# EAGLE library part 8P8C (library con-rj45)
generic 8P8C connector with two LED's
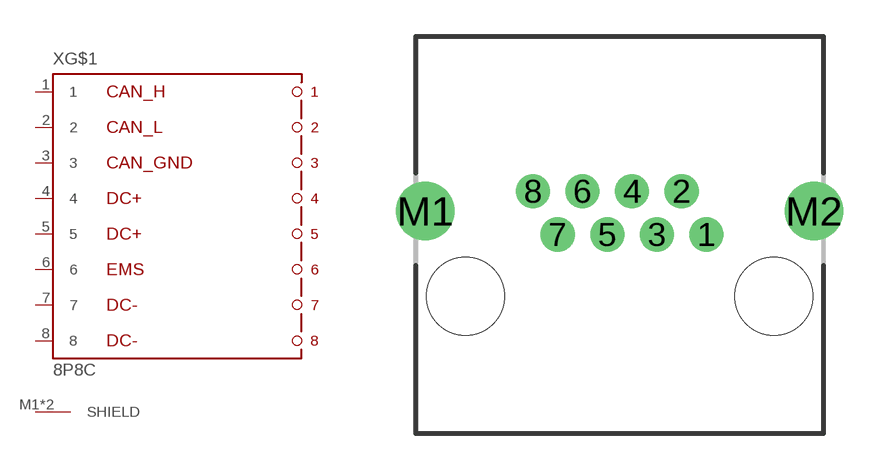
[diagram p2: symbol with the pads of 8P8C; footprint 8P8C]

Designator prefix X; gates G$1=8P8C G$2=SHIELD

## 8P8C  [8P8C]
1  G$1:1  in
2  G$1:2  in
3  G$1:3  in
4  G$1:4  in
5  G$1:5  in
6  G$1:6  in
7  G$1:7  in
8  G$1:8  in
M1  G$2:SHIELD  pas
M2  G$2:SHIELD  pas

## Footprint 8P8C (pad centres in mm)
PULSEJACK (TM) 1x1 Tab-UP RJ45 10/100 Base-TX RJ45 1x1 Tab-UP with LEDs 8-pin (J1 series) and 6-pin (JP series) integrated magnetics connector, designed to support applications, such as ADSL modems, LAN-on-Motherboard, and Hub and Switches. Source: www.pulseeng.com .. PulseJack-J402.pdf
drill 0.9 pad 1.3: 1 3.57,-3.81; 2 2.55,-2.03; 3 1.53,-3.81; 4 0.51,-2.03; 5 -0.51,-3.81; 6 -1.53,-2.03; 7 -2.55,-3.81; 8 -3.57,-2.03
drill 1.6 pad 2.184: M1 -8,-2.85; M2 8,-2.85
hole 3.2 at 6.35,-6.35
hole 3.2 at -6.35,-6.35